# Altium schematic symbol library Analog.SchLib: 16 symbols
Pins are listed as number, name and electrical type; pins without a type are passive.

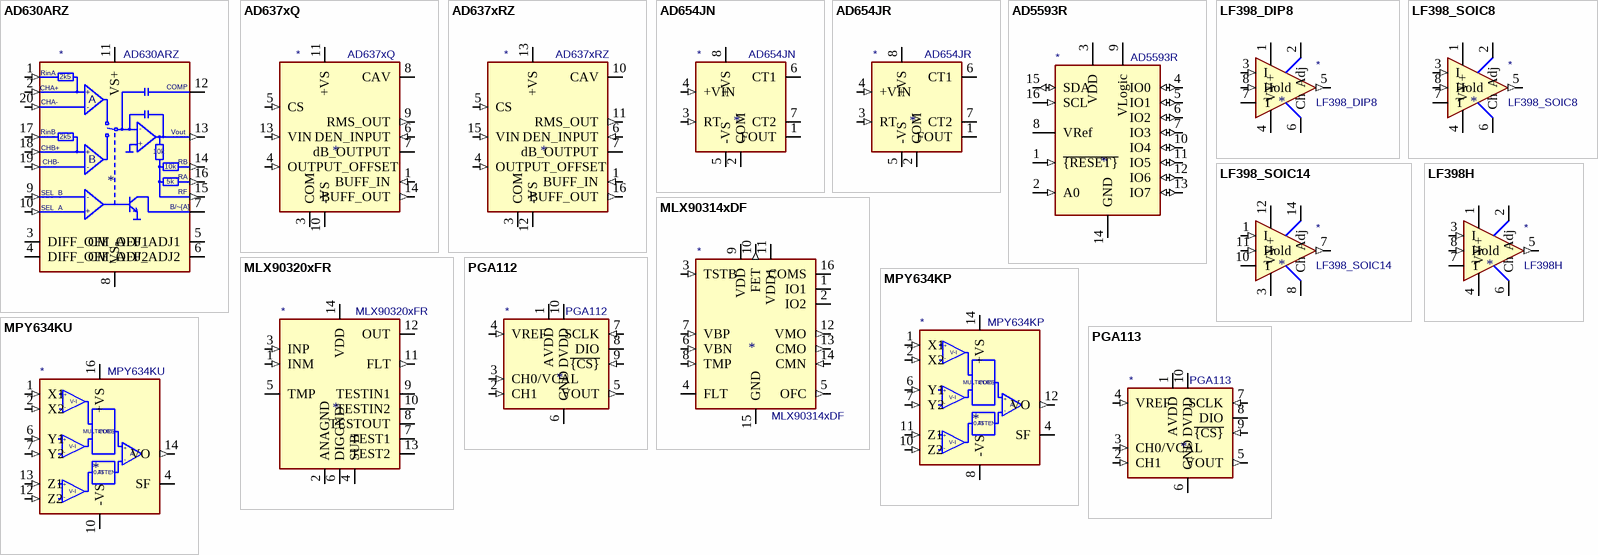
[diagram p0: symbols AD630ARZ to PGA113]

## AD630ARZ
designator *  value AD630ARZ
ki_keywords: modulator demodulator; ki_description: High precision Balanced Modulator/Demodulator, 2 MHz, SOIC-20W; ki_fp_filters: SOIC*7.5x12.8mm*P1.27mm*; Footprint: Package_SO:SOIC-20W_7.5x12.8mm_P1.27mm; Supplier: https://www.analog.com/media/en/technical-documentation/data-sheets/ad630.pdf
footprint SOIC-20W_7.5x12.8mm_P1.27mm
pins: 1 RinA (in), 2 CHA+ (in), 3 DIFF_OFF_ADJ1, 4 DIFF_OFF_ADJ2, 5 CM_OFF_ADJ1, 6 CM_OFF_ADJ2, 7 B/~{{A}} (oc), 8 VS- (power), 9 SEL_B (in), 10 SEL_A (in), 11 VS+ (power), 12 COMP, 13 Vout (out), 14 RB (out), 15 RF (out), 16 RA (out), 17 RinB (in), 18 CHB+ (in), 19 CHB- (in), 20 CHA- (in)
text: 2k5; +; A; -; 10k; B; 5k; B/~{A}

## AD637xQ
designator *  value AD637xQ
ki_keywords: rms-to-dc; ki_description: High Precision, Wideband RMS-to-DC Converter, DIP-14; ki_fp_filters: DIP*W7.62mm*; Footprint: Package_DIP:DIP-14_W7.62mm; Supplier: https://www.analog.com/media/en/technical-documentation/data-sheets/AD637.pdf
footprint DIP-14_W7.62mm
pins: 1 BUFF_IN (in), 2 NIC (in) hidden, 3 COM (power), 4 OUTPUT_OFFSET (in), 5 CS (in), 6 DEN_INPUT (in), 7 dB_OUTPUT, 8 CAV, 9 RMS_OUT (out), 10 -VS (power), 11 +VS (power), 12 NIC (in) hidden, 13 VIN (in), 14 BUFF_OUT (out)

## AD637xRZ
designator *  value AD637xRZ
ki_keywords: rms-to-dc; ki_description: High Precision, Wideband RMS-to-DC Converter, SOIC-16; ki_fp_filters: SOIC*7.5x10.3mm*P1.27mm*; Footprint: Package_SO:SOIC-16W_7.5x10.3mm_P1.27mm; Supplier: https://www.analog.com/media/en/technical-documentation/data-sheets/AD637.pdf
footprint SOIC-16W_7.5x10.3mm_P1.27mm
pins: 1 BUFF_IN (in), 2 NIC (in) hidden, 3 COM (power), 4 OUTPUT_OFFSET (in), 5 CS (in), 6 DEN_INPUT (in), 7 dB_OUTPUT, 8 NIC (in) hidden, 9 NIC (in) hidden, 10 CAV, 11 RMS_OUT (out), 12 -VS (power), 13 +VS (power), 14 NIC (in) hidden, 15 VIN (in), 16 BUFF_OUT (out)

## AD654JN
designator *  value AD654JN
ki_keywords: v-to-f v-f; ki_description: Low Cost Monolithic Voltage-to-Frequency Converter, DIP-8; ki_fp_filters: DIP*W7.62mm*; Footprint: Package_DIP:DIP-8_W7.62mm; Supplier: https://www.analog.com/media/en/technical-documentation/data-sheets/AD654.pdf
footprint DIP-8_W7.62mm
pins: 1 FOUT (oc), 2 COM (power), 3 RT (in), 4 +VIN (in), 5 -VS (power), 6 CT1, 7 CT2, 8 +VS (power)

## AD654JR
designator *  value AD654JR
ki_keywords: v-to-f v-f; ki_description: Low Cost Monolithic Voltage-to-Frequency Converter, SOIC-8; ki_fp_filters: SOIC*3.9x4.9mm*P1.27mm*; Footprint: Package_SO:SOIC-8_3.9x4.9mm_P1.27mm; Supplier: https://www.analog.com/media/en/technical-documentation/data-sheets/AD654.pdf
footprint SOIC-8_3.9x4.9mm_P1.27mm
pins: 1 FOUT (oc), 2 COM (power), 3 RT (in), 4 +VIN (in), 5 -VS (power), 6 CT1, 7 CT2, 8 +VS (power)

## AD5593R
designator *  value AD5593R
ki_keywords: 8channel 12bit ADC DAC GPIO I2C Temperature; ki_description: 8-channel 12bits configurable ADC/DAC/GPIO Internal Reference, I2C interface Integrated temperature sensor,Single Supply, TSSOP-16; ki_fp_filters: TSSOP-16*; Footprint: Package_SO:TSSOP-16_4.4x5mm_P0.65mm; Supplier: https://www.analog.com/media/en/technical-documentation/data-sheets/AD5593R.pdf
footprint TSSOP-16_4.4x5mm_P0.65mm
pins: 1 ~{{RESET}} (in), 2 A0 (in), 3 VDD (power), 4 IO0 (io), 5 IO1 (io), 6 IO2 (io), 7 IO3 (io), 8 VRef, 9 VLogic (power), 10 IO4 (io), 11 IO5 (io), 12 IO6 (io), 13 IO7 (io), 14 GND (power), 15 SDA (io), 16 SCL (in)

## LF398_DIP8
designator *  value LF398_DIP8
ki_keywords: sample hold buffer unity gain; ki_description: Sample And Hold Unity Gain Follower, DIP-8; ki_fp_filters: *SOIC*3.9x4.9mm*P1.27mm* *DIP*W7.62mm*; Supplier: http://www.ti.com/lit/ds/symlink/lf398-n.pdf
pins: 1 V+, 2 Adj, 3 I (in), 4 V-, 5 (out), 6 Ch, 7 T, 8 Hold (in)

## LF398_SOIC8
designator *  value LF398_SOIC8
ki_keywords: sample hold buffer unity gain; ki_description: Sample And Hold Unity Gain Follower, SOIC-8; ki_fp_filters: *SOIC*3.9x4.9mm*P1.27mm* *DIP*W7.62mm*; Supplier: https://www.analog.com/media/en/technical-documentation/data-sheets/lt0398s8.pdf
pins: 1 V+, 2 Adj, 3 I (in), 4 V-, 5 (out), 6 Ch, 7 T, 8 Hold (in)

## LF398_SOIC14
designator *  value LF398_SOIC14
ki_keywords: sample hold buffer unity gain; ki_description: Sample And Hold Unity Gain Follower, SOIC-14; ki_fp_filters: *SOIC*3.9x8.7mm*P1.27mm*; Footprint: Package_SO:SOIC-14_3.9x8.7mm_P1.27mm; Supplier: http://www.ti.com/lit/ds/symlink/lf398-n.pdf
footprint SOIC-14_3.9x8.7mm_P1.27mm
pins: 1 I (in), 2 NC (in) hidden, 3 V-, 4 NC (in) hidden, 5 NC (in) hidden, 6 NC (in) hidden, 7 (out), 8 Ch, 9 NC (in) hidden, 10 T, 11 Hold (in), 12 V+, 13 NC (in) hidden, 14 Adj

## LF398H
designator *  value LF398H
ki_keywords: sample hold buffer unity gain; ki_description: Sample And Hold Unity Gain Follower, TO-99-8; ki_fp_filters: *TO*99*; Footprint: Package_TO_SOT_THT:TO-99-8; Supplier: http://www.ti.com/lit/ds/symlink/lf398-n.pdf
footprint TO-99-8
pins: 1 V+, 2 Adj, 3 I (in), 4 V-, 5 (out), 6 Ch, 7 T, 8 Hold (in)

## MLX90314xDF
designator *  value MLX90314xDF
ki_keywords: sensor signal conditioning; ki_description: Programmable Sensor Interface (Signal Conditioner), SOIC-16W; ki_fp_filters: SOIC*7.5x10.3mm*P1.27mm*; Footprint: Package_SO:SOIC-16W_7.5x10.3mm_P1.27mm; Supplier: https://www.melexis.com/-/media/files/documents/datasheets/mlx90314-datasheet-melexis.pdf
footprint SOIC-16W_7.5x10.3mm_P1.27mm
pins: 1 IO1 (io), 2 IO2 (io), 3 TSTB (in), 4 FLT, 5 OFC (out), 6 VBN (in), 7 VBP (in), 8 TMP (in), 9 VDD (power), 10 FET (out), 11 VDD1 (power), 12 VMO (out), 13 CMO (out), 14 CMN (in), 15 GND (power), 16 COMS (io)

## MLX90320xFR
designator *  value MLX90320xFR
ki_keywords: sensor signal conditioning; ki_description: Programmable Automotive Sensor Interface (Signal Conditioner), SSOP-14; ki_fp_filters: SSOP*5.3x6.2mm*P0.65mm*; Footprint: Package_SO:SSOP-14_5.3x6.2mm_P0.65mm; Supplier: https://www.melexis.com/-/media/files/documents/datasheets/mlx90320-datasheet-melexis.pdf
footprint SSOP-14_5.3x6.2mm_P0.65mm
pins: 1 INM (in), 2 ANAGND (power), 3 INP (in), 4 SUB (power), 5 TMP, 6 DIGGND (power), 7 TEST1, 8 TESTOUT, 9 TESTIN1, 10 TESTIN2, 11 FLT (out), 12 OUT (io), 13 TEST2, 14 VDD (power)

## MPY634KP
designator *  value MPY634KP
ki_keywords: analog multiplier; ki_description: Wide Bandwidth Precision Analog Multiplier, DIP-14; ki_fp_filters: DIP*W7.62mm*; Footprint: Package_DIP:DIP-14_W7.62mm; Supplier: http://www.ti.com/lit/ds/symlink/mpy634.pdf
footprint DIP-14_W7.62mm
pins: 1 X1 (in), 2 X2 (in), 3 NC (in) hidden, 4 SF, 5 NC (in) hidden, 6 Y1 (in), 7 Y2 (in), 8 -VS (power), 9 NC (in) hidden, 10 Z2 (in), 11 Z1 (in), 12 VO (out), 13 NC (in) hidden, 14 +VS (power)
text: +; V-I; -; MULTIPLIER; CORE; A; 0.75; ATTEN

## MPY634KU
designator *  value MPY634KU
ki_keywords: analog multiplier; ki_description: Wide Bandwidth Precision Analog Multiplier, SOIC-16W; ki_fp_filters: SOIC*7.5x10.3mm*P1.27mm*; Footprint: Package_SO:SOIC-16W_7.5x10.3mm_P1.27mm; Supplier: http://www.ti.com/lit/ds/symlink/mpy634.pdf
footprint SOIC-16W_7.5x10.3mm_P1.27mm
pins: 1 X1 (in), 2 X2 (in), 3 NC (in) hidden, 4 SF, 5 NC (in) hidden, 6 Y1 (in), 7 Y2 (in), 8 NC (in) hidden, 9 NC (in) hidden, 10 -VS (power), 11 NC (in) hidden, 12 Z2 (in), 13 Z1 (in), 14 VO (out), 15 NC (in) hidden, 16 +VS (power)
text: +; V-I; -; MULTIPLIER; CORE; A; 0.75; ATTEN

## PGA112
designator *  value PGA112
ki_keywords: PGA SPI; ki_description: Zero-Drift Programmable Gain Amplifier With Mux, x1/x2/x4/x8/x16/x32/x64/x128 gains, VSSOP-10; ki_fp_filters: TSSOP*3x3mm*P0.5mm*; Footprint: Package_SO:TSSOP-10_3x3mm_P0.5mm; Supplier: http://www.ti.com/lit/ds/sbos424c/sbos424c.pdf
footprint TSSOP-10_3x3mm_P0.5mm
pins: 1 AVDD (power), 2 CH1 (in), 3 CH0/VCAL (in), 4 VREF (in), 5 VOUT (out), 6 GND (power), 7 SCLK (in), 8 DIO (io), 9 ~{{CS}} (in), 10 DVDD (power)

## PGA113
designator *  value PGA113
ki_keywords: PGA SPI; ki_description: Zero-Drift Programmable Gain Amplifier With Mux, x1/x2/x5/x10/x20/x50/x100/x200 gains, VSSOP-10; ki_fp_filters: TSSOP*3x3mm*P0.5mm*; Footprint: Package_SO:TSSOP-10_3x3mm_P0.5mm; Supplier: http://www.ti.com/lit/ds/sbos424c/sbos424c.pdf
footprint TSSOP-10_3x3mm_P0.5mm
pins: 1 AVDD (power), 2 CH1 (in), 3 CH0/VCAL (in), 4 VREF (in), 5 VOUT (out), 6 GND (power), 7 SCLK (in), 8 DIO (io), 9 ~{{CS}} (in), 10 DVDD (power)